# Altium schematic symbol library resistor.SchLib: 1 symbol
Pins are listed as number, name and electrical type; pins without a type are passive.

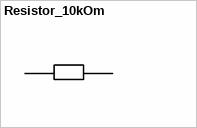
[diagram p0: symbol Resistor_10kOm]

## Resistor_10kOm
designator R?
Value: 10kOm; ComponentLink1Description: link; ComponentLink1URL: *
footprint R_0402 (Chip Resistor, 2-Leads, Body 1.00x0.50mm, IPC Medium Density)
pins: 0, 1